# Altium schematic symbol library RES_SMD_1210.SchLib: 1 symbol
Pins are listed as number, name and electrical type; pins without a type are passive.

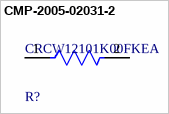
[diagram p0: symbol CMP-2005-02031-2]

## CMP-2005-02031-2
designator R?, comment CRCW12101K00FKEA
RES SMD 205K OHM 1% 1/2W 1363; Resistance: 1kR; Voltage Rating: 200V; Max Power Dissipation: 500mW; Temperature Coefficient: 100ppm/°C; Height - Seated (Max): 0.024inch; Termination: SMD/SMT; Features: Automotive AEC-Q200; Case Code (Imperial): 1210; Case/Package: 1210; Voltage Rating (DC): 200V; Number of Terminations: 2; Length: 3.2mm; Number of Pins: 2; Case Code (Metric): 3225; Contact Plating: Tin; Working Voltage: 200V; Weight: 0.000564oz; Mount: Surface Mount; Height: 0.55mm; Radiation Hardening: No; Composition: Thick Film; Min Operating Temperature: -55°C; Width: 0.098inch; Depth: 2.5mm; Military Standard: Not; Lead Free: Lead Free; Packaging: Tape and Reel; Tolerance: 1%; Max Operating Temperature: 155°C; Power Rating: 500mW; Package Quantity: 1
footprint FP-CRCW1210-e3-IPC_A
footprint FP-CRCW1210-e3-IPC_B
footprint FP-CRCW1210-e3-MFG
footprint FP-CRCW1210-e3-IPC_C
pins: 1, 2